# Altium footprint library PCB - POWER MODULE - A1215S-2WR2.PcbLib: 1 footprints
Each footprint in its own frame and in the unit in brackets; x right, y up, seen from the top. Pads: shape width x height; smd on the part's side, far side on the other; paste and mask are expansions set on the pad; w line width, h text height; cw(c..) or ccw(c..) is an arc to the next point about the centre after c.
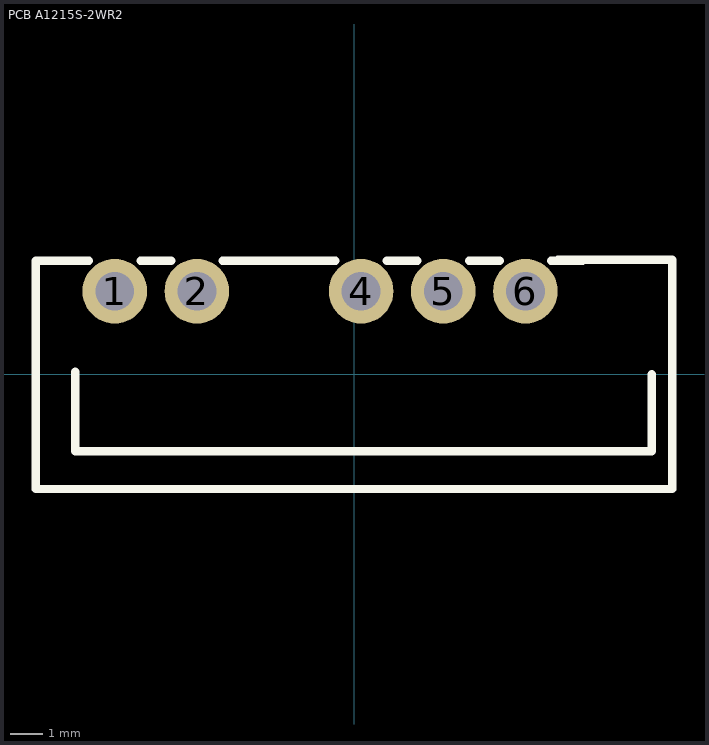
[diagram p0: the footprint, top view; thin cyan lines are the x and y axes]

## PCB A1215S-2WR2 [mm]
pads (5):
  round 2 hole 1.2 paste+0 mask+0.051: 1(-7.4,2.575) 2(-4.86,2.575) 4(0.22,2.575) 5(2.76,2.575) 6(5.3,2.575)
Top Overlay:
  lines w0.254: -8.62,0.085 -8.62,-2.375 9.21,-2.375 9.21,0.005 ; -8.194,3.515 -9.84,3.515 -9.84,-3.545 9.84,-3.545 9.84,3.545 6.31,3.545 ; -6.606,3.515 -5.654,3.515 ; -4.066,3.515 -0.574,3.515 ; 1.014,3.515 1.966,3.515 ; 3.554,3.515 4.506,3.515 ; 6.094,3.515 7.07,3.515
Mechanical 29:
  text "'.Designator'" at 0.254,0.635 h1.52
3D body "RD-1215D-P--3DModel-STEP-1.STEP": height 9.7, standoff -4.6, extent -9.698,-3.525 9.952,3.525